# Altium footprint library WE-TFC_UU9.8V.PcbLib: 1 footprints
Each footprint in its own frame and in the unit in brackets; x right, y up, seen from the top. Pads: shape width x height; smd on the part's side, far side on the other; paste and mask are expansions set on the pad; w line width, h text height; cw(c..) or ccw(c..) is an arc to the next point about the centre after c.
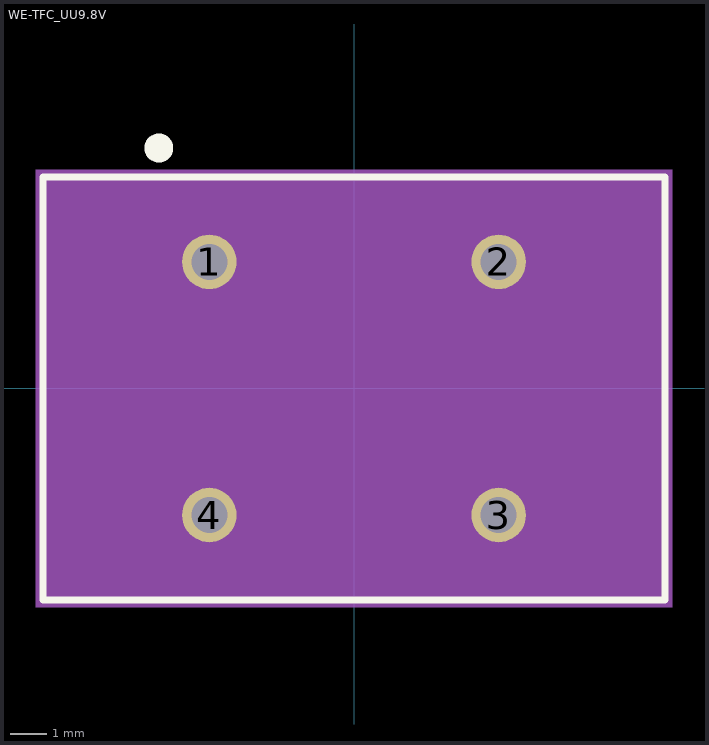
[diagram p0: the footprint, top view; thin cyan lines are the x and y axes]

## WE-TFC_UU9.8V [mm]
pads (4):
  round 1.508 hole 1: 1(-4,3.5) 2(4,3.5) 3(4,-3.5) 4(-4,-3.5)
Top Overlay:
  circle w0.4: c-5.4,6.65 r0.2
  lines w0.2: -8.6,-5.85 -8.6,5.85 8.6,5.85 8.6,-5.85 -8.6,-5.85
Assembly Top:
  lines w0.1: -8.5,-5.75 -8.5,5.75 8.5,5.75 8.5,-5.75 -8.5,-5.75
Courtyard Top:
  region: 8.8,-6.05 -8.8,-6.05 -8.8,6.05 8.8,6.05
3D body "step_temp.STEP": height 9.05, standoff -9.7, extent -7.849,-5.3 7.849,5.3